# Altium footprint library Connector_Phoenix_SPT.PcbLib: 69 footprints (part 1 of 5)
Each footprint in its own frame and in the unit in brackets; x right, y up, seen from the top. Pads: shape width x height; smd on the part's side, far side on the other; paste and mask are expansions set on the pad; w line width, h text height; cw(c..) or ccw(c..) is an arc to the next point about the centre after c.
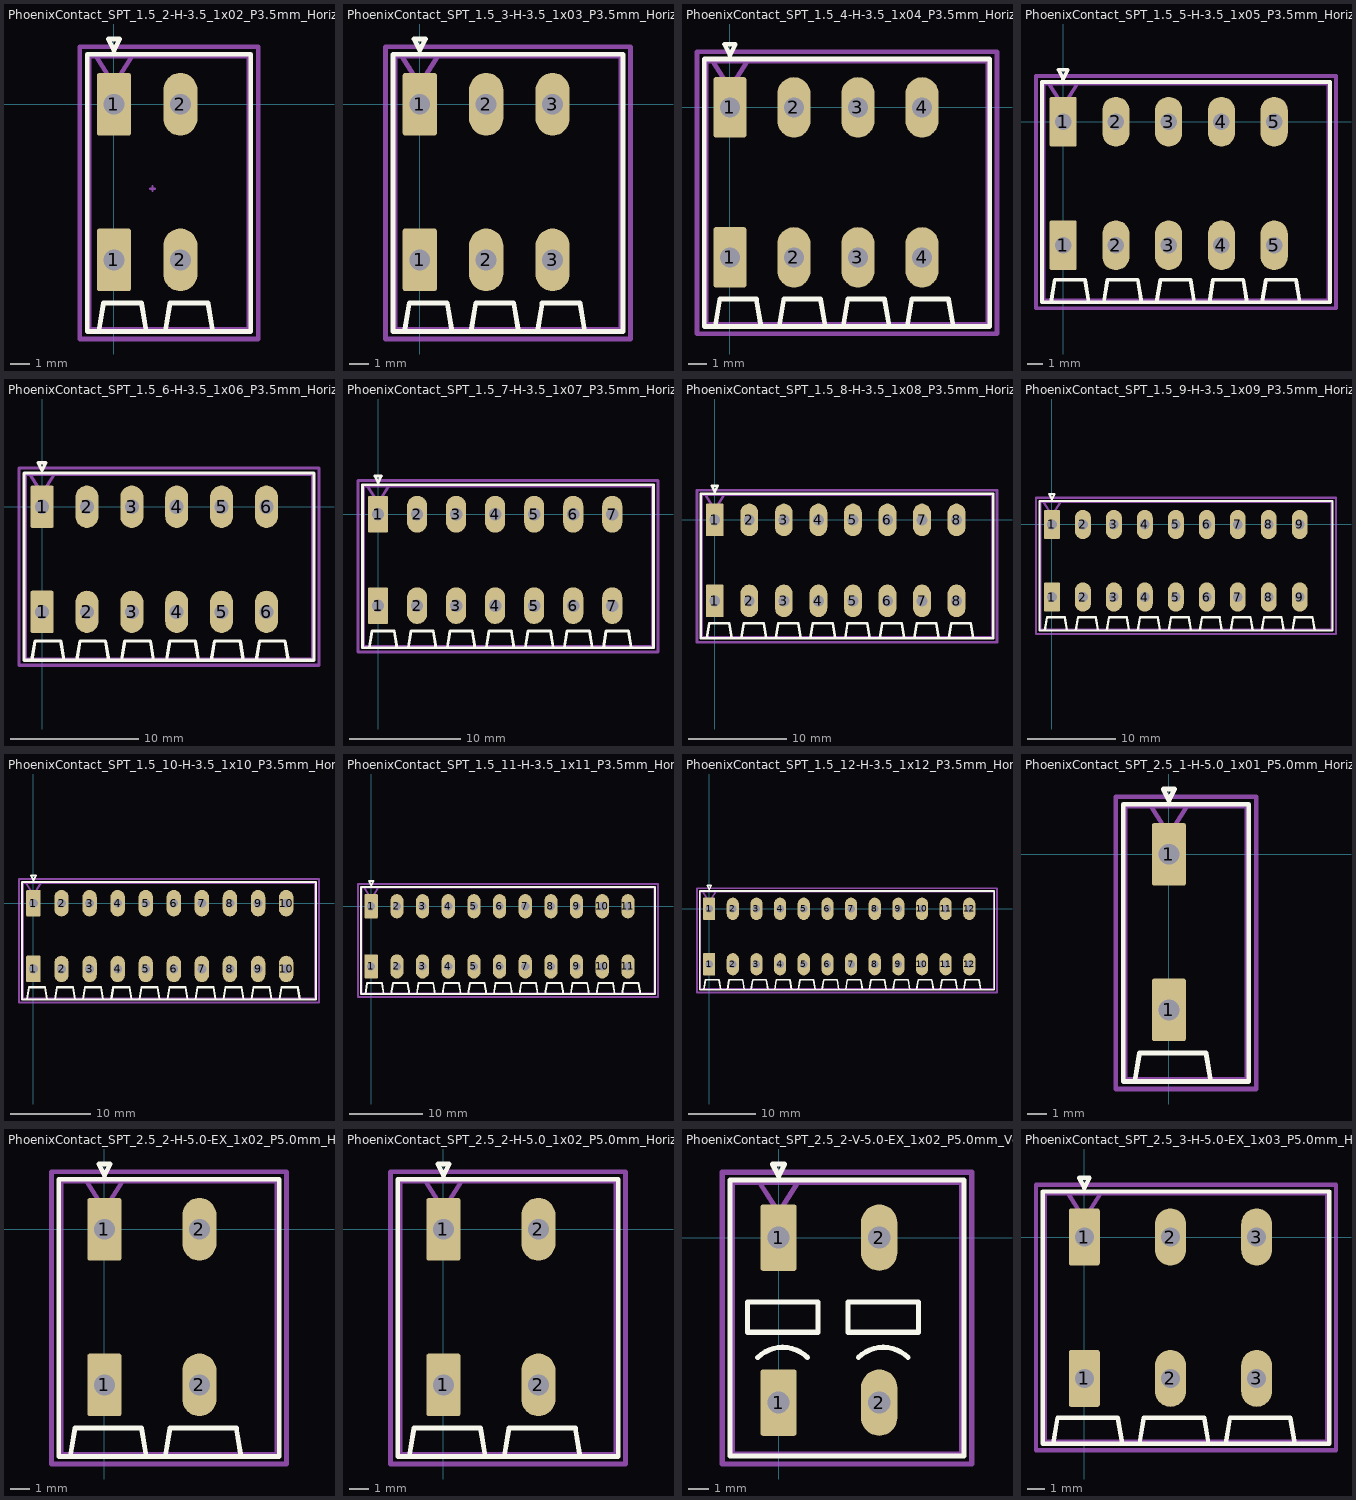
[diagram p0: the footprints below, top view; thin cyan lines are the x and y axes]

## PhoenixContact_SPT_1.5_2-H-3.5_1x02_P3.5mm_Horizontal [mm]
pads (4):
  rrect14% 1.8x3.3 hole 1.1: 1(0,-8.2) 1(0,0)
  rrect100% 1.8x3.3 hole 1.1: 2(3.5,-8.2) 2(3.5,0)
F.SilkS:
  lines w0.254: -0.8,-11.98 -0.55,-10.48 1.45,-10.48 1.7,-11.98 ; 2.7,-11.98 2.95,-10.48 4.95,-10.48 5.2,-11.98 ; -1.41,-11.98 7.21,-11.98 7.21,2.64 -1.41,2.64 -1.41,-11.98 ; -0.3,3.44 0.3,3.44 0,2.84 -0.3,3.44
Top Component Center:
  lines w0.127: 1.905,-4.445 2.159,-4.445 ; 2.032,-4.572 2.032,-4.318
Top Assembly:
  lines w0.254: -0.95,2.53 0,1.03 0.95,2.53 ; -1.3,-11.87 7.1,-11.87 7.1,2.53 -1.3,2.53 -1.3,-11.87
  text "'.Designator'" at -1.147,0.99 h1
Top Courtyard:
  lines w0.254: -1.8,-12.37 7.6,-12.37 7.6,3.03 -1.8,3.03 -1.8,-12.37
Top Designator:
  text ".Designator" at -4.718,-4.973 h1.52

## PhoenixContact_SPT_1.5_3-H-3.5_1x03_P3.5mm_Horizontal [mm]
pads (6):
  rrect14% 1.8x3.3 hole 1.1: 1(0,-8.2) 1(0,0)
  rrect100% 1.8x3.3 hole 1.1: 2(3.5,-8.2) 2(3.5,0) 3(7,-8.2) 3(7,0)
F.SilkS:
  lines w0.254: -0.8,-11.98 -0.55,-10.48 1.45,-10.48 1.7,-11.98 ; 2.7,-11.98 2.95,-10.48 4.95,-10.48 5.2,-11.98 ; 6.2,-11.98 6.45,-10.48 8.45,-10.48 8.7,-11.98 ; -1.41,-11.98 10.71,-11.98 10.71,2.64 -1.41,2.64 -1.41,-11.98 ; -0.3,3.44 0.3,3.44 0,2.84 -0.3,3.44
Top Assembly:
  lines w0.254: -0.95,2.53 0,1.03 0.95,2.53 ; -1.3,-11.87 10.6,-11.87 10.6,2.53 -1.3,2.53 -1.3,-11.87
  text "'.Designator'" at 0.603,0.99 h1
Top Courtyard:
  lines w0.254: -1.8,-12.37 11.1,-12.37 11.1,3.03 -1.8,3.03 -1.8,-12.37
Top Designator:
  text ".Designator" at -2.968,-4.973 h1.52

## PhoenixContact_SPT_1.5_4-H-3.5_1x04_P3.5mm_Horizontal [mm]
pads (8):
  rrect14% 1.8x3.3 hole 1.1: 1(0,-8.2) 1(0,0)
  rrect100% 1.8x3.3 hole 1.1: 2(3.5,-8.2) 2(3.5,0) 3(7,-8.2) 3(7,0) 4(10.5,-8.2) 4(10.5,0)
F.SilkS:
  lines w0.254: -0.8,-11.98 -0.55,-10.48 1.45,-10.48 1.7,-11.98 ; 2.7,-11.98 2.95,-10.48 4.95,-10.48 5.2,-11.98 ; 6.2,-11.98 6.45,-10.48 8.45,-10.48 8.7,-11.98 ; 9.7,-11.98 9.95,-10.48 11.95,-10.48 12.2,-11.98 ; -1.41,-11.98 14.21,-11.98 14.21,2.64 -1.41,2.64 -1.41,-11.98 ; -0.3,3.44 0.3,3.44 0,2.84 -0.3,3.44
Top Assembly:
  lines w0.254: -0.95,2.53 0,1.03 0.95,2.53 ; -1.3,-11.87 14.1,-11.87 14.1,2.53 -1.3,2.53 -1.3,-11.87
  text "'.Designator'" at 2.353,0.99 h1
Top Courtyard:
  lines w0.254: -1.8,-12.37 14.6,-12.37 14.6,3.03 -1.8,3.03 -1.8,-12.37
Top Designator:
  text ".Designator" at -1.218,-4.973 h1.52

## PhoenixContact_SPT_1.5_5-H-3.5_1x05_P3.5mm_Horizontal [mm]
pads (10):
  rrect14% 1.8x3.3 hole 1.1: 1(0,-8.2) 1(0,0)
  rrect100% 1.8x3.3 hole 1.1: 2(3.5,-8.2) 2(3.5,0) 3(7,-8.2) 3(7,0) 4(10.5,-8.2) 4(10.5,0) 5(14,-8.2) 5(14,0)
F.SilkS:
  lines w0.254: -0.8,-11.98 -0.55,-10.48 1.45,-10.48 1.7,-11.98 ; 2.7,-11.98 2.95,-10.48 4.95,-10.48 5.2,-11.98 ; 6.2,-11.98 6.45,-10.48 8.45,-10.48 8.7,-11.98 ; 9.7,-11.98 9.95,-10.48 11.95,-10.48 12.2,-11.98 ; 13.2,-11.98 13.45,-10.48 15.45,-10.48 15.7,-11.98 ; -1.41,-11.98 17.71,-11.98 17.71,2.64 -1.41,2.64 -1.41,-11.98 ; -0.3,3.44 0.3,3.44 0,2.84 -0.3,3.44
Top Assembly:
  lines w0.254: -0.95,2.53 0,1.03 0.95,2.53 ; -1.3,-11.87 17.6,-11.87 17.6,2.53 -1.3,2.53 -1.3,-11.87
  text "'.Designator'" at 4.103,0.99 h1
Top Courtyard:
  lines w0.254: -1.8,-12.37 18.1,-12.37 18.1,3.03 -1.8,3.03 -1.8,-12.37
Top Designator:
  text ".Designator" at 0.532,-4.973 h1.52

## PhoenixContact_SPT_1.5_6-H-3.5_1x06_P3.5mm_Horizontal [mm]
pads (12):
  rrect14% 1.8x3.3 hole 1.1: 1(0,-8.2) 1(0,0)
  rrect100% 1.8x3.3 hole 1.1: 2(3.5,-8.2) 2(3.5,0) 3(7,-8.2) 3(7,0) 4(10.5,-8.2) 4(10.5,0) 5(14,-8.2) 5(14,0) 6(17.5,-8.2) 6(17.5,0)
F.SilkS:
  lines w0.254: -0.8,-11.98 -0.55,-10.48 1.45,-10.48 1.7,-11.98 ; 2.7,-11.98 2.95,-10.48 4.95,-10.48 5.2,-11.98 ; 6.2,-11.98 6.45,-10.48 8.45,-10.48 8.7,-11.98 ; 9.7,-11.98 9.95,-10.48 11.95,-10.48 12.2,-11.98 ; 13.2,-11.98 13.45,-10.48 15.45,-10.48 15.7,-11.98 ; 16.7,-11.98 16.95,-10.48 18.95,-10.48 19.2,-11.98 ; -1.41,-11.98 21.21,-11.98 21.21,2.64 -1.41,2.64 -1.41,-11.98 ; -0.3,3.44 0.3,3.44 0,2.84 -0.3,3.44
Top Assembly:
  lines w0.254: -0.95,2.53 0,1.03 0.95,2.53 ; -1.3,-11.87 21.1,-11.87 21.1,2.53 -1.3,2.53 -1.3,-11.87
  text "'.Designator'" at 5.853,0.99 h1
Top Courtyard:
  lines w0.254: -1.8,-12.37 21.6,-12.37 21.6,3.03 -1.8,3.03 -1.8,-12.37
Top Designator:
  text ".Designator" at 2.282,-4.973 h1.52

## PhoenixContact_SPT_1.5_7-H-3.5_1x07_P3.5mm_Horizontal [mm]
pads (14):
  rrect14% 1.8x3.3 hole 1.1: 1(0,-8.2) 1(0,0)
  rrect100% 1.8x3.3 hole 1.1: 2(3.5,-8.2) 2(3.5,0) 3(7,-8.2) 3(7,0) 4(10.5,-8.2) 4(10.5,0) 5(14,-8.2) 5(14,0) 6(17.5,-8.2) 6(17.5,0) 7(21,-8.2) 7(21,0)
F.SilkS:
  lines w0.254: -0.8,-11.98 -0.55,-10.48 1.45,-10.48 1.7,-11.98 ; 2.7,-11.98 2.95,-10.48 4.95,-10.48 5.2,-11.98 ; 6.2,-11.98 6.45,-10.48 8.45,-10.48 8.7,-11.98 ; 9.7,-11.98 9.95,-10.48 11.95,-10.48 12.2,-11.98 ; 13.2,-11.98 13.45,-10.48 15.45,-10.48 15.7,-11.98 ; 16.7,-11.98 16.95,-10.48 18.95,-10.48 19.2,-11.98 ; 20.2,-11.98 20.45,-10.48 22.45,-10.48 22.7,-11.98 ; -1.41,-11.98 24.71,-11.98 24.71,2.64 -1.41,2.64 -1.41,-11.98 ; -0.3,3.44 0.3,3.44 0,2.84 -0.3,3.44
Top Assembly:
  lines w0.254: -0.95,2.53 0,1.03 0.95,2.53 ; -1.3,-11.87 24.6,-11.87 24.6,2.53 -1.3,2.53 -1.3,-11.87
  text "'.Designator'" at 7.603,0.99 h1
Top Courtyard:
  lines w0.254: -1.8,-12.37 25.1,-12.37 25.1,3.03 -1.8,3.03 -1.8,-12.37
Top Designator:
  text ".Designator" at 4.032,-4.973 h1.52

## PhoenixContact_SPT_1.5_8-H-3.5_1x08_P3.5mm_Horizontal [mm]
pads (16):
  rrect14% 1.8x3.3 hole 1.1: 1(0,-8.2) 1(0,0)
  rrect100% 1.8x3.3 hole 1.1: 2(3.5,-8.2) 2(3.5,0) 3(7,-8.2) 3(7,0) 4(10.5,-8.2) 4(10.5,0) 5(14,-8.2) 5(14,0) 6(17.5,-8.2) 6(17.5,0) 7(21,-8.2) 7(21,0) 8(24.5,-8.2) 8(24.5,0)
F.SilkS:
  lines w0.254: -0.8,-11.98 -0.55,-10.48 1.45,-10.48 1.7,-11.98 ; 2.7,-11.98 2.95,-10.48 4.95,-10.48 5.2,-11.98 ; 6.2,-11.98 6.45,-10.48 8.45,-10.48 8.7,-11.98 ; 9.7,-11.98 9.95,-10.48 11.95,-10.48 12.2,-11.98 ; 13.2,-11.98 13.45,-10.48 15.45,-10.48 15.7,-11.98 ; 16.7,-11.98 16.95,-10.48 18.95,-10.48 19.2,-11.98 ; 20.2,-11.98 20.45,-10.48 22.45,-10.48 22.7,-11.98 ; 23.7,-11.98 23.95,-10.48 25.95,-10.48 26.2,-11.98 ; -1.41,-11.98 28.21,-11.98 28.21,2.64 -1.41,2.64 -1.41,-11.98 ; -0.3,3.44 0.3,3.44 0,2.84 -0.3,3.44
Top Assembly:
  lines w0.254: -0.95,2.53 0,1.03 0.95,2.53 ; -1.3,-11.87 28.1,-11.87 28.1,2.53 -1.3,2.53 -1.3,-11.87
  text "'.Designator'" at 9.353,0.99 h1
Top Courtyard:
  lines w0.254: -1.8,-12.37 28.6,-12.37 28.6,3.03 -1.8,3.03 -1.8,-12.37
Top Designator:
  text ".Designator" at 5.782,-4.973 h1.52

## PhoenixContact_SPT_1.5_9-H-3.5_1x09_P3.5mm_Horizontal [mm]
pads (18):
  rrect14% 1.8x3.3 hole 1.1: 1(0,-8.2) 1(0,0)
  rrect100% 1.8x3.3 hole 1.1: 2(3.5,-8.2) 2(3.5,0) 3(7,-8.2) 3(7,0) 4(10.5,-8.2) 4(10.5,0) 5(14,-8.2) 5(14,0) 6(17.5,-8.2) 6(17.5,0) 7(21,-8.2) 7(21,0) 8(24.5,-8.2) 8(24.5,0) 9(28,-8.2) 9(28,0)
F.SilkS:
  lines w0.254: -0.8,-11.98 -0.55,-10.48 1.45,-10.48 1.7,-11.98 ; 2.7,-11.98 2.95,-10.48 4.95,-10.48 5.2,-11.98 ; 6.2,-11.98 6.45,-10.48 8.45,-10.48 8.7,-11.98 ; 9.7,-11.98 9.95,-10.48 11.95,-10.48 12.2,-11.98 ; 13.2,-11.98 13.45,-10.48 15.45,-10.48 15.7,-11.98 ; 16.7,-11.98 16.95,-10.48 18.95,-10.48 19.2,-11.98 ; 20.2,-11.98 20.45,-10.48 22.45,-10.48 22.7,-11.98 ; 23.7,-11.98 23.95,-10.48 25.95,-10.48 26.2,-11.98 ; 27.2,-11.98 27.45,-10.48 29.45,-10.48 29.7,-11.98 ; -1.41,-11.98 31.71,-11.98 31.71,2.64 -1.41,2.64 -1.41,-11.98 ; -0.3,3.44 0.3,3.44 0,2.84 -0.3,3.44
Top Assembly:
  lines w0.254: -0.95,2.53 0,1.03 0.95,2.53 ; -1.3,-11.87 31.6,-11.87 31.6,2.53 -1.3,2.53 -1.3,-11.87
  text "'.Designator'" at 11.103,0.99 h1
Top Courtyard:
  lines w0.254: -1.8,-12.37 32.1,-12.37 32.1,3.03 -1.8,3.03 -1.8,-12.37
Top Designator:
  text ".Designator" at 7.532,-4.973 h1.52

## PhoenixContact_SPT_1.5_10-H-3.5_1x10_P3.5mm_Horizontal [mm]
pads (20):
  rrect14% 1.8x3.3 hole 1.1: 1(0,-8.2) 1(0,0)
  rrect100% 1.8x3.3 hole 1.1: 2(3.5,-8.2) 2(3.5,0) 3(7,-8.2) 3(7,0) 4(10.5,-8.2) 4(10.5,0) 5(14,-8.2) 5(14,0) 6(17.5,-8.2) 6(17.5,0) 7(21,-8.2) 7(21,0) 8(24.5,-8.2) 8(24.5,0) 9(28,-8.2) 9(28,0) 10(31.5,-8.2) 10(31.5,0)
F.SilkS:
  lines w0.254: -0.8,-11.98 -0.55,-10.48 1.45,-10.48 1.7,-11.98 ; 2.7,-11.98 2.95,-10.48 4.95,-10.48 5.2,-11.98 ; 6.2,-11.98 6.45,-10.48 8.45,-10.48 8.7,-11.98 ; 9.7,-11.98 9.95,-10.48 11.95,-10.48 12.2,-11.98 ; 13.2,-11.98 13.45,-10.48 15.45,-10.48 15.7,-11.98 ; 16.7,-11.98 16.95,-10.48 18.95,-10.48 19.2,-11.98 ; 20.2,-11.98 20.45,-10.48 22.45,-10.48 22.7,-11.98 ; 23.7,-11.98 23.95,-10.48 25.95,-10.48 26.2,-11.98 ; 27.2,-11.98 27.45,-10.48 29.45,-10.48 29.7,-11.98 ; 30.7,-11.98 30.95,-10.48 32.95,-10.48 33.2,-11.98 ; -1.41,-11.98 35.21,-11.98 35.21,2.64 -1.41,2.64 -1.41,-11.98 ; -0.3,3.44 0.3,3.44 0,2.84 -0.3,3.44
Top Assembly:
  lines w0.254: -0.95,2.53 0,1.03 0.95,2.53 ; -1.3,-11.87 35.1,-11.87 35.1,2.53 -1.3,2.53 -1.3,-11.87
  text "'.Designator'" at 12.853,0.99 h1
Top Courtyard:
  lines w0.254: -1.8,-12.37 35.6,-12.37 35.6,3.03 -1.8,3.03 -1.8,-12.37
Top Designator:
  text ".Designator" at 9.282,-4.973 h1.52

## PhoenixContact_SPT_1.5_11-H-3.5_1x11_P3.5mm_Horizontal [mm]
pads (22):
  rrect14% 1.8x3.3 hole 1.1: 1(0,-8.2) 1(0,0)
  rrect100% 1.8x3.3 hole 1.1: 2(3.5,-8.2) 2(3.5,0) 3(7,-8.2) 3(7,0) 4(10.5,-8.2) 4(10.5,0) 5(14,-8.2) 5(14,0) 6(17.5,-8.2) 6(17.5,0) 7(21,-8.2) 7(21,0) 8(24.5,-8.2) 8(24.5,0) 9(28,-8.2) 9(28,0) 10(31.5,-8.2) 10(31.5,0) 11(35,-8.2) 11(35,0)
F.SilkS:
  lines w0.254: -0.8,-11.98 -0.55,-10.48 1.45,-10.48 1.7,-11.98 ; 2.7,-11.98 2.95,-10.48 4.95,-10.48 5.2,-11.98 ; 6.2,-11.98 6.45,-10.48 8.45,-10.48 8.7,-11.98 ; 9.7,-11.98 9.95,-10.48 11.95,-10.48 12.2,-11.98 ; 13.2,-11.98 13.45,-10.48 15.45,-10.48 15.7,-11.98 ; 16.7,-11.98 16.95,-10.48 18.95,-10.48 19.2,-11.98 ; 20.2,-11.98 20.45,-10.48 22.45,-10.48 22.7,-11.98 ; 23.7,-11.98 23.95,-10.48 25.95,-10.48 26.2,-11.98 ; 27.2,-11.98 27.45,-10.48 29.45,-10.48 29.7,-11.98 ; 30.7,-11.98 30.95,-10.48 32.95,-10.48 33.2,-11.98 ; 34.2,-11.98 34.45,-10.48 36.45,-10.48 36.7,-11.98 ; -1.41,-11.98 38.71,-11.98 38.71,2.64 -1.41,2.64 -1.41,-11.98 ; -0.3,3.44 0.3,3.44 0,2.84 -0.3,3.44
Top Assembly:
  lines w0.254: -0.95,2.53 0,1.03 0.95,2.53 ; -1.3,-11.87 38.6,-11.87 38.6,2.53 -1.3,2.53 -1.3,-11.87
  text "'.Designator'" at 14.603,0.99 h1
Top Courtyard:
  lines w0.254: -1.8,-12.37 39.1,-12.37 39.1,3.03 -1.8,3.03 -1.8,-12.37
Top Designator:
  text ".Designator" at 11.032,-4.973 h1.52

## PhoenixContact_SPT_1.5_12-H-3.5_1x12_P3.5mm_Horizontal [mm]
pads (24):
  rrect14% 1.8x3.3 hole 1.1: 1(0,-8.2) 1(0,0)
  rrect100% 1.8x3.3 hole 1.1: 2(3.5,-8.2) 2(3.5,0) 3(7,-8.2) 3(7,0) 4(10.5,-8.2) 4(10.5,0) 5(14,-8.2) 5(14,0) 6(17.5,-8.2) 6(17.5,0) 7(21,-8.2) 7(21,0) 8(24.5,-8.2) 8(24.5,0) 9(28,-8.2) 9(28,0) 10(31.5,-8.2) 10(31.5,0) 11(35,-8.2) 11(35,0) 12(38.5,-8.2) 12(38.5,0)
F.SilkS:
  lines w0.254: -0.8,-11.98 -0.55,-10.48 1.45,-10.48 1.7,-11.98 ; 2.7,-11.98 2.95,-10.48 4.95,-10.48 5.2,-11.98 ; 6.2,-11.98 6.45,-10.48 8.45,-10.48 8.7,-11.98 ; 9.7,-11.98 9.95,-10.48 11.95,-10.48 12.2,-11.98 ; 13.2,-11.98 13.45,-10.48 15.45,-10.48 15.7,-11.98 ; 16.7,-11.98 16.95,-10.48 18.95,-10.48 19.2,-11.98 ; 20.2,-11.98 20.45,-10.48 22.45,-10.48 22.7,-11.98 ; 23.7,-11.98 23.95,-10.48 25.95,-10.48 26.2,-11.98 ; 27.2,-11.98 27.45,-10.48 29.45,-10.48 29.7,-11.98 ; 30.7,-11.98 30.95,-10.48 32.95,-10.48 33.2,-11.98 ; 34.2,-11.98 34.45,-10.48 36.45,-10.48 36.7,-11.98 ; 37.7,-11.98 37.95,-10.48 39.95,-10.48 40.2,-11.98 ; -1.41,-11.98 42.21,-11.98 42.21,2.64 -1.41,2.64 -1.41,-11.98 ; -0.3,3.44 0.3,3.44 0,2.84 -0.3,3.44
Top Assembly:
  lines w0.254: -0.95,2.53 0,1.03 0.95,2.53 ; -1.3,-11.87 42.1,-11.87 42.1,2.53 -1.3,2.53 -1.3,-11.87
  text "'.Designator'" at 16.353,0.99 h1
Top Courtyard:
  lines w0.254: -1.8,-12.37 42.6,-12.37 42.6,3.03 -1.8,3.03 -1.8,-12.37
Top Designator:
  text ".Designator" at 12.782,-4.973 h1.52

## PhoenixContact_SPT_2.5_1-H-5.0_1x01_P5.0mm_Horizontal [mm]
pads (2):
  rrect14% 1.8x3.3 hole 1.1: 1(0,-8.2) 1(0,0)
F.SilkS:
  lines w0.254: -1.8,-11.98 -1.55,-10.48 1.95,-10.48 2.2,-11.98 ; -2.41,-11.98 4.21,-11.98 4.21,2.64 -2.41,2.64 -2.41,-11.98 ; -0.3,3.44 0.3,3.44 0,2.84 -0.3,3.44
Top Assembly:
  lines w0.254: -0.95,2.53 0,1.03 0.95,2.53 ; -2.3,-11.87 4.1,-11.87 4.1,2.53 -2.3,2.53 -2.3,-11.87
  text "'.Designator'" at -3.147,0.99 h1
Top Courtyard:
  lines w0.254: -2.8,-12.37 4.6,-12.37 4.6,3.03 -2.8,3.03 -2.8,-12.37
Top Designator:
  text ".Designator" at -6.868,-4.973 h1.52

## PhoenixContact_SPT_2.5_2-H-5.0-EX_1x02_P5.0mm_Horizontal [mm]
pads (4):
  rrect14% 1.8x3.3 hole 1.1: 1(0,-8.2) 1(0,0)
  rrect100% 1.8x3.3 hole 1.1: 2(5,-8.2) 2(5,0)
F.SilkS:
  lines w0.254: -1.8,-11.98 -1.55,-10.48 1.95,-10.48 2.2,-11.98 ; 3.2,-11.98 3.45,-10.48 6.95,-10.48 7.2,-11.98 ; -2.41,-11.98 9.21,-11.98 9.21,2.64 -2.41,2.64 -2.41,-11.98 ; -0.3,3.44 0.3,3.44 0,2.84 -0.3,3.44
Top Assembly:
  lines w0.254: -0.95,2.53 0,1.03 0.95,2.53 ; -2.3,-11.87 9.1,-11.87 9.1,2.53 -2.3,2.53 -2.3,-11.87
  text "'.Designator'" at -0.647,0.99 h1
Top Courtyard:
  lines w0.254: -2.8,-12.37 9.6,-12.37 9.6,3.03 -2.8,3.03 -2.8,-12.37
Top Designator:
  text ".Designator" at -4.218,-4.973 h1.52

## PhoenixContact_SPT_2.5_2-H-5.0_1x02_P5.0mm_Horizontal [mm]
pads (4):
  rrect14% 1.8x3.3 hole 1.1: 1(0,-8.2) 1(0,0)
  rrect100% 1.8x3.3 hole 1.1: 2(5,-8.2) 2(5,0)
F.SilkS:
  lines w0.254: -1.8,-11.98 -1.55,-10.48 1.95,-10.48 2.2,-11.98 ; 3.2,-11.98 3.45,-10.48 6.95,-10.48 7.2,-11.98 ; -2.41,-11.98 9.21,-11.98 9.21,2.64 -2.41,2.64 -2.41,-11.98 ; -0.3,3.44 0.3,3.44 0,2.84 -0.3,3.44
Top Assembly:
  lines w0.254: -0.95,2.53 0,1.03 0.95,2.53 ; -2.3,-11.87 9.1,-11.87 9.1,2.53 -2.3,2.53 -2.3,-11.87
  text "'.Designator'" at -0.647,0.99 h1
Top Courtyard:
  lines w0.254: -2.8,-12.37 9.6,-12.37 9.6,3.03 -2.8,3.03 -2.8,-12.37
Top Designator:
  text ".Designator" at -4.218,-4.973 h1.52

## PhoenixContact_SPT_2.5_2-V-5.0-EX_1x02_P5.0mm_Vertical [mm]
pads (4):
  rrect14% 1.8x3.3 hole 1.1: 1(0,-8.2) 1(0,0)
  rrect100% 1.8x3.3 hole 1.1: 2(5,-8.2) 2(5,0)
F.SilkS:
  lines w0.254: -1.037,-5.963 cw(c0.2,-7.2) 1.437,-5.963 ; 3.963,-5.963 cw(c5.2,-7.2) 6.437,-5.963 ; -2.41,-10.86 9.21,-10.86 9.21,2.86 -2.41,2.86 -2.41,-10.86 ; -1.55,-4.7 1.95,-4.7 1.95,-3.2 -1.55,-3.2 -1.55,-4.7 ; -0.3,3.66 0.3,3.66 0,3.06 -0.3,3.66 ; 3.45,-4.7 6.95,-4.7 6.95,-3.2 3.45,-3.2 3.45,-4.7
Top Assembly:
  lines w0.254: -0.95,2.75 0,1.25 0.95,2.75 ; -2.3,-10.75 9.1,-10.75 9.1,2.75 -2.3,2.75 -2.3,-10.75
  text "'.Designator'" at -0.647,1.21 h1
Top Courtyard:
  lines w0.254: -2.8,-11.25 9.6,-11.25 9.6,3.25 -2.8,3.25 -2.8,-11.25
Top Designator:
  text ".Designator" at -4.218,-4.303 h1.52

## PhoenixContact_SPT_2.5_3-H-5.0-EX_1x03_P5.0mm_Horizontal [mm]
pads (6):
  rrect14% 1.8x3.3 hole 1.1: 1(0,-8.2) 1(0,0)
  rrect100% 1.8x3.3 hole 1.1: 2(5,-8.2) 2(5,0) 3(10,-8.2) 3(10,0)
F.SilkS:
  lines w0.254: -1.8,-11.98 -1.55,-10.48 1.95,-10.48 2.2,-11.98 ; 3.2,-11.98 3.45,-10.48 6.95,-10.48 7.2,-11.98 ; 8.2,-11.98 8.45,-10.48 11.95,-10.48 12.2,-11.98 ; -2.41,-11.98 14.21,-11.98 14.21,2.64 -2.41,2.64 -2.41,-11.98 ; -0.3,3.44 0.3,3.44 0,2.84 -0.3,3.44
Top Assembly:
  lines w0.254: -0.95,2.53 0,1.03 0.95,2.53 ; -2.3,-11.87 14.1,-11.87 14.1,2.53 -2.3,2.53 -2.3,-11.87
  text "'.Designator'" at 1.853,0.99 h1
Top Courtyard:
  lines w0.254: -2.8,-12.37 14.6,-12.37 14.6,3.03 -2.8,3.03 -2.8,-12.37
Top Designator:
  text ".Designator" at -1.718,-4.973 h1.52